# Altium schematic symbol library IRF6216.Schlib: 1 symbol
Pins are listed as number, name and electrical type; pins without a type are passive.

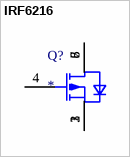
[diagram p0: symbol IRF6216]

## IRF6216
designator Q?
pins: 1 SOURCE@1, 2 SOURCE@2, 3 SOURCE@3, 4 GATE, 5 DRAIN@1, 6 DRAIN@2, 7 DRAIN@3, 8 DRAIN@4